# EAGLE library part INA219 (library edc_modules)
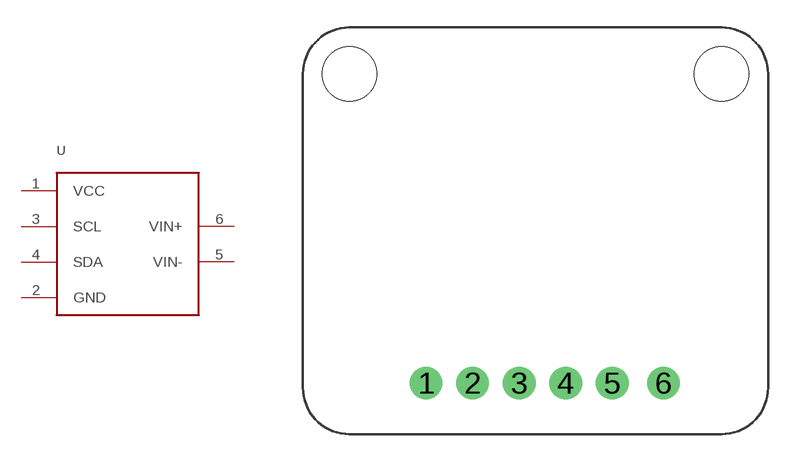
[diagram p1: symbol with the pads of INA219; footprint INA219]

Designator prefix -

## INA219  [INA219]
1  VCC
2  GND
3  SCL
4  SDA
5  VIN-
6  VIN+

## Footprint INA219 (pad centres in mm)
drill 1 pad 1.778: 1 6.731,2.794; 2 9.271,2.794; 3 11.811,2.794; 4 14.351,2.794; 5 16.891,2.794; 6 19.685,2.794
hole 3 at 2.54,19.7
hole 3 at 22.86,19.7